# EAGLE library part CONN_W5500 (library DSPR)
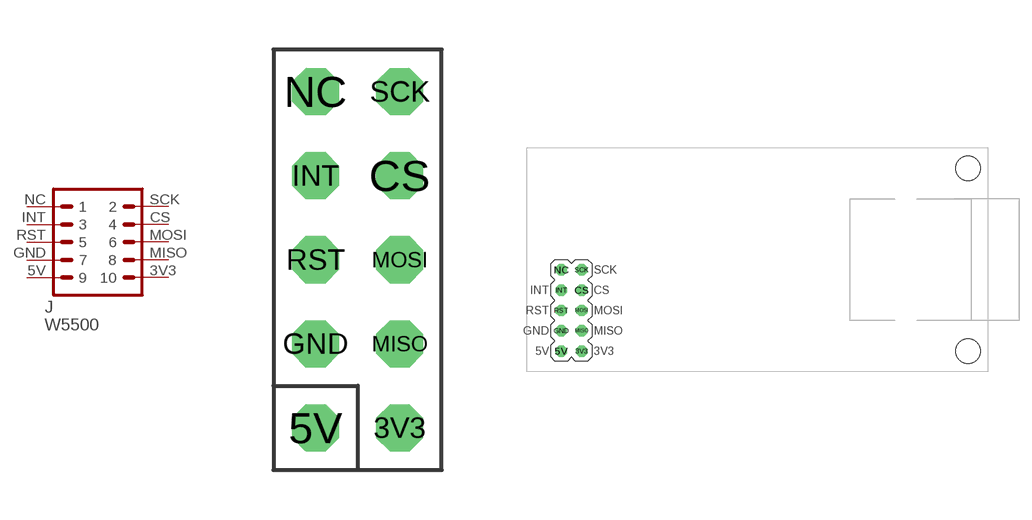
[diagram p1: symbol with the pads of CONN_W5500_MODULE; footprints CONN_W5500_MODULE, TENSTAR-ROBOT_W5500]

Designator prefix J

## CONN_W5500_PINOUT  [CONN_W5500_MODULE]
3V3  10  pas
5V  9  pas
CS  4  pas
GND  7  pas
INT  3  pas
MISO  8  pas
MOSI  6  pas
NC  1  pas
RST  5  pas
SCK  2  pas

## CONN_W5500_BOARD  [TENSTAR-ROBOT_W5500]
Pads as for CONN_W5500_MODULE

## Footprint CONN_W5500_MODULE (pad centres in mm)
drill 0.813 pad 1.422 octagon: 3V3 2.54,0; 5V 0,0; CS 2.54,7.62; GND 0,2.54; INT 0,7.62; MISO 2.54,2.54; MOSI 2.54,5.08; NC 0,10.16; RST 0,5.08; SCK 2.54,10.16

## Footprint TENSTAR-ROBOT_W5500 (pad centres in mm)
drill 0.813 pad 1.422 octagon: 3V3 2.54,0; 5V 0,0; CS 2.54,7.62; GND 0,2.54; INT 0,7.62; MISO 2.54,2.54; MOSI 2.54,5.08; NC 0,10.16; RST 0,5.08; SCK 2.54,10.16
hole 3.048 at 50.8,0
hole 3.048 at 50.8,22.86